# EAGLE library part 050_610_?-45/90 (library con-sullinselectronics)
.050 DIP EDGE CARD CONNECTOR .050 [1.27mm] CONTACT CENTERS .610" INSULATEOR HEIGHT Source: .050 DIP EDGE CARD.pdf
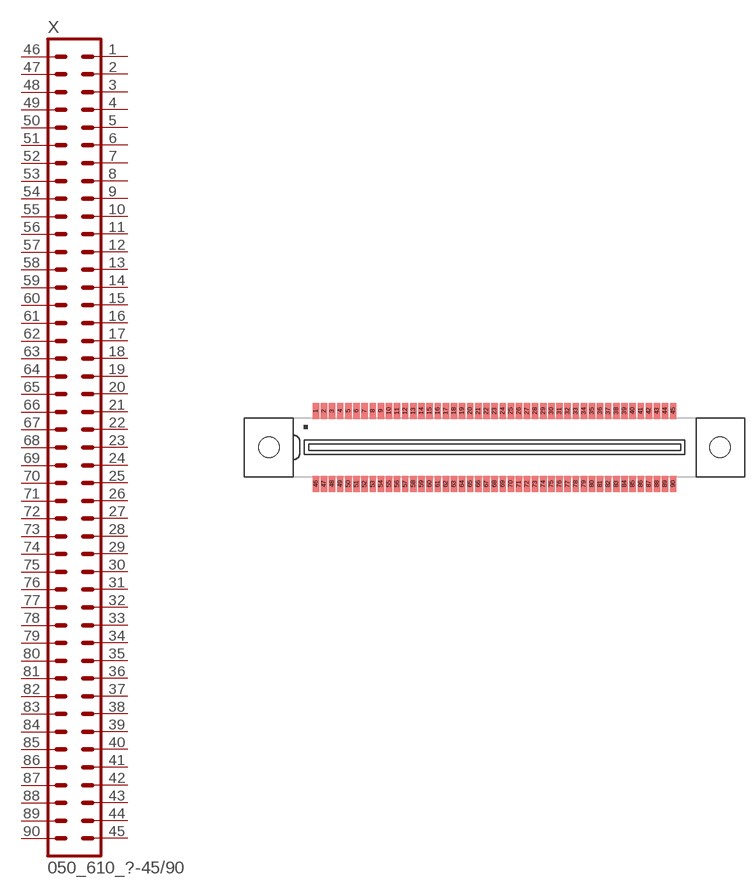
[diagram p8: symbol with the pads of 050_610_HF-45/90; footprint 050_610_HF-45/90]

Designator prefix X

## 050_610_HF-45/90 (OC_FARNELL: unknown; OC_NEWARK: unknown)  [050_610_HF-45/90]
1  1  pas
2  2  pas
3  3  pas
4  4  pas
5  5  pas
6  6  pas
7  7  pas
8  8  pas
9  9  pas
10  10  pas
11  11  pas
12  12  pas
13  13  pas
14  14  pas
15  15  pas
16  16  pas
17  17  pas
18  18  pas
19  19  pas
20  20  pas
21  21  pas
22  22  pas
23  23  pas
24  24  pas
25  25  pas
26  26  pas
27  27  pas
28  28  pas
29  29  pas
30  30  pas
31  31  pas
32  32  pas
33  33  pas
34  34  pas
35  35  pas
36  36  pas
37  37  pas
38  38  pas
39  39  pas
40  40  pas
41  41  pas
42  42  pas
43  43  pas
44  44  pas
45  45  pas
46  46  pas
47  47  pas
48  48  pas
49  49  pas
50  50  pas
51  51  pas
52  52  pas
53  53  pas
54  54  pas
55  55  pas
56  56  pas
57  57  pas
58  58  pas
59  59  pas
60  60  pas
61  61  pas
62  62  pas
63  63  pas
64  64  pas
65  65  pas
66  66  pas
67  67  pas
68  68  pas
69  69  pas
70  70  pas
71  71  pas
72  72  pas
73  73  pas
74  74  pas
75  75  pas
76  76  pas
77  77  pas
78  78  pas
79  79  pas
80  80  pas
81  81  pas
82  82  pas
83  83  pas
84  84  pas
85  85  pas
86  86  pas
87  87  pas
88  88  pas
89  89  pas
90  90  pas

## Footprint 050_610_HF-45/90 (pad centres in mm)
.050 DIP EDGE CARD CONNECTOR SURFACE MOUNT .050 [1.27mm] CONTACT CENTERS .610" INSULATEOR HEIGHT Source: .050 DIP EDGE CARD.pdf
smd 1 x 2.5: 1 -27.94,5.715; 2 -26.67,5.715; 3 -25.4,5.715; 4 -24.13,5.715; 5 -22.86,5.715; 6 -21.59,5.715; 7 -20.32,5.715; 8 -19.05,5.715; 9 -17.78,5.715; 10 -16.51,5.715; 11 -15.24,5.715; 12 -13.97,5.715; 13 -12.7,5.715; 14 -11.43,5.715; 15 -10.16,5.715; 16 -8.89,5.715; 17 -7.62,5.715; 18 -6.35,5.715; 19 -5.08,5.715; 20 -3.81,5.715; 21 -2.54,5.715; 22 -1.27,5.715; 23 0,5.715; 24 1.27,5.715; 25 2.54,5.715; 26 3.81,5.715; 27 5.08,5.715; 28 6.35,5.715; 29 7.62,5.715; 30 8.89,5.715; 31 10.16,5.715; 32 11.43,5.715; 33 12.7,5.715; 34 13.97,5.715; 35 15.24,5.715; 36 16.51,5.715; 37 17.78,5.715; 38 19.05,5.715; 39 20.32,5.715; 40 21.59,5.715; 41 22.86,5.715; 42 24.13,5.715; 43 25.4,5.715; 44 26.67,5.715; 45 27.94,5.715; 46 -27.94,-5.715; 47 -26.67,-5.715; 48 -25.4,-5.715; 49 -24.13,-5.715; 50 -22.86,-5.715; 51 -21.59,-5.715; 52 -20.32,-5.715; 53 -19.05,-5.715; 54 -17.78,-5.715; 55 -16.51,-5.715; 56 -15.24,-5.715; 57 -13.97,-5.715; 58 -12.7,-5.715; 59 -11.43,-5.715; 60 -10.16,-5.715; 61 -8.89,-5.715; 62 -7.62,-5.715; 63 -6.35,-5.715; 64 -5.08,-5.715; 65 -3.81,-5.715; 66 -2.54,-5.715; 67 -1.27,-5.715; 68 0,-5.715; 69 1.27,-5.715; 70 2.54,-5.715; 71 3.81,-5.715; 72 5.08,-5.715; 73 6.35,-5.715; 74 7.62,-5.715; 75 8.89,-5.715; 76 10.16,-5.715; 77 11.43,-5.715; 78 12.7,-5.715; 79 13.97,-5.715; 80 15.24,-5.715; 81 16.51,-5.715; 82 17.78,-5.715; 83 19.05,-5.715; 84 20.32,-5.715; 85 21.59,-5.715; 86 22.86,-5.715; 87 24.13,-5.715; 88 25.4,-5.715; 89 26.67,-5.715; 90 27.94,-5.715
hole 3.18 at -35.255,0
hole 3.18 at 35.255,0